# Altium footprint library PcbLib1.PcbLib: 224 footprints (part 13 of 14)
Each footprint in its own frame and in the unit in brackets; x right, y up, seen from the top. Pads: shape width x height; smd on the part's side, far side on the other; paste and mask are expansions set on the pad; w line width, h text height; cw(c..) or ccw(c..) is an arc to the next point about the centre after c.
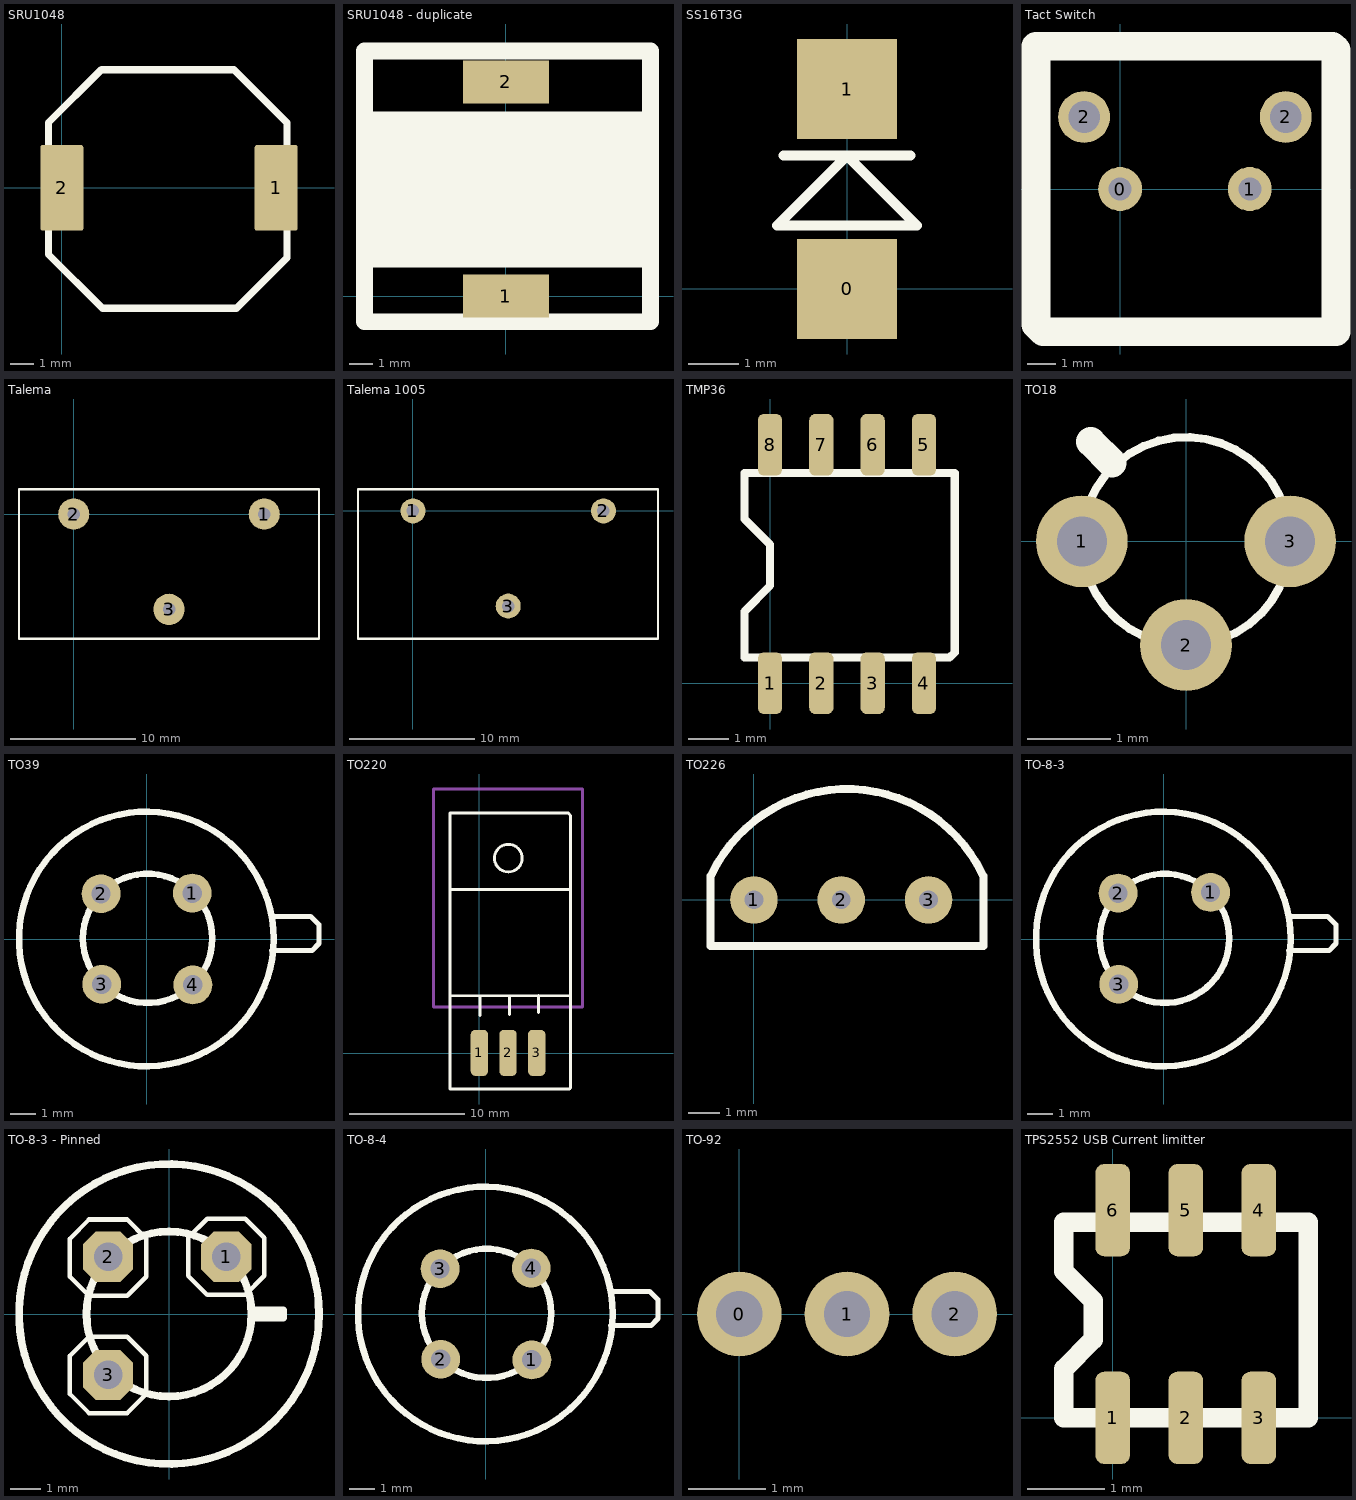
[diagram p12: the footprints below, top view; thin cyan lines are the x and y axes]

## SRU1048 [mm]
height 5
pads (2):
  rrect10% 1.8x3.6 smd: 1(9,0) 2(0,0)
Top Overlay:
  lines w0.3: -0.559,-2.794 1.702,-5.055 7.341,-5.055 9.449,-2.946 9.449,2.743 7.231,4.961 1.659,4.961 -0.559,2.743 -0.559,-2.794

## SRU1048 - duplicate [mm]
height 5
pads (2):
  rect 3.6x1.8 smd: 1(0,0) 2(0,8.992)
Top Overlay:
  rectangle: -5.994,1.194 6.172,7.747
  lines w0.7: -5.933,10.287 -5.933,-1.082 6.067,-1.082 6.067,10.287 ; -5.842,10.287 6.02,10.287

## SS16T3G [mm] "Schottky"
pads (2):
  rect 2x2 smd: 0(0,0) 1(0,4)
Top Overlay:
  lines w0.2: -1.27,2.667 1.27,2.667 ; -1.397,1.27 0,2.667 1.397,1.27 -1.397,1.27

## Tact Switch [mm]
pads (4):
  round 1.524 hole 0.8: 0(0,0) 1(4.5,0)
  round 1.8 hole 1.1: 2(-1.25,2.5) 2(5.75,2.5)
Top Overlay:
  lines w1: 0.047,-4.953 7.493,-4.953 7.493,4.826 7.366,4.953 -2.921,4.953 -2.921,-4.699 -2.667,-4.953 1.397,-4.953

## Talema [mm]
pads (3):
  round 2.5 hole 1: 1(15.24,0) 2(0,0) 3(7.62,-7.62)
Top Overlay:
  lines w0.2: -4.38,-9.993 19.62,-9.993 19.62,2.007 -4.38,2.007 -4.38,-9.993

## Talema 1005 [mm]
height 30
pads (3):
  round 2 hole 1: 1(0,0) 2(15.24,0) 3(7.62,-7.62)
Top Overlay:
  lines w0.2: -4.4,-10.25 19.6,-10.25 19.6,1.75 -4.4,1.75 -4.4,-10.25

## TMP36 [mm]
height 1
pads (8):
  rrect50% 0.6x1.524 smd: 1(0,0) 2(1.27,0) 3(2.54,0) 4(3.81,0) 5(3.81,5.9) 6(2.54,5.9) 7(1.27,5.9) 8(0,5.9)
Top Overlay:
  lines w0.2: -0.635,0.635 4.445,0.635 4.572,0.762 4.572,5.207 -0.635,5.207 -0.635,4.064 0,3.429 0,2.413 -0.635,1.778 -0.635,0.635

## TO18 [mm]
pads (3):
  round 1.1 hole 0.6: 1(-1.25,0) 2(0,-1.245) 3(1.25,0)
Top Overlay:
  circle w0.1: c0,0 r1.25
  lines w0.35: -1.143,1.194 -0.889,0.94

## TO39 [mil]
height 196.85
pads (4):
  round 60 hole 30: 1(70,71) 2(-71,70) 3(-70,-70) 4(71,-71)
Top Overlay:
  circle w10: c1,1 r100
  circle w10: c-1,0 r196.85
  lines w7.87: 193,-18 255,-18 266,-7 266,22 253,35 193,35

## TO220 [mm]
pads (3):
  rrect50% 1.5x4 smd: 1(0,0.025) 2(2.5,0.025) 3(5,0.025)
Top Overlay:
  circle w0.254: c2.525,17 r1.205
  lines w0.254: -2.489,5.004 7.823,5.004 7.899,5.08 ; -2.489,14.275 7.95,14.275 ; 0.051,3.277 0.051,4.928 ; 2.642,3.378 2.642,4.953 ; 5.156,3.531 5.156,5.029 ; -2.565,-3.124 -2.565,20.904 -2.54,20.93 7.747,20.93 7.95,20.726 7.95,-3.048 7.874,-3.124 -2.565,-3.124
Mechanical 1:
  lines w0.254: -4.002,4.025 -4.002,23.025 8.998,23.025 8.998,4.025 -4.002,4.025

## TO226 [mil]
pads (3):
  round 60 hole 23.62: 1(0,0) 2(110.24,0) 3(220.47,0)
Top Overlay:
  lines w10: -55,-58 -55,30 -54,31 cw(c117.5,-49.41) 289,31 290,30 290,-58 -55,-58

## TO-8-3 [mil]
height 157.48
pads (3):
  round 60 hole 30: 1(72,72) 2(-71,71) 3(-70,-70)
Top Overlay:
  circle w10: c1,1 r100
  circle w10: c-1,0 r196.85
  lines w7.87: 193,-18 255,-18 266,-7 266,22 253,35 193,35

## TO-8-3 - Pinned [mil]
pads (3):
  oct 66x66 hole 37.4: 1(75,75) 2(-80,75) 3(-80,-80)
Top Overlay:
  circle w10: c0,0 r196.85
  circle w10: c0,0 r108.27
  rectangle: -90,-90 -70,-70
  rectangle: -90,64 -70,84
  rectangle: 65,65 85,85
  lines w6: -105,-30 -55,-30 ; -105,-30 -55,-30 ; -105,-30 -130,-55 -130,-105 -105,-130 -55,-130 -30,-105 ; -105,124 -55,124 ; -105,124 -55,124 ; -105,124 -130,99 -130,49 -105,24 -55,24 -30,49 ; -55,-30 -30,-55 ; -55,124 -30,99 ; -30,-105 -30,-55 ; -30,-105 -30,-55 ; -30,49 -30,99 ; -30,49 -30,99 ; 50,125 100,125 ; 50,125 100,125 ; 50,125 25,100 25,50 50,25 100,25 125,50 ; 100,125 125,100 ; 125,50 125,100 ; 125,50 125,100
  lines w10: 108.27,0 113.27,-5 150,-5 150,5 110,5
  lines w27.56: 75,75 80,75

## TO-8-4 [mil]
pads (4):
  round 60 hole 30: 1(71,-71) 2(-70,-70) 3(-71,70) 4(70,71)
Top Overlay:
  circle w10: c1,1 r100
  circle w10: c-1,0 r196.85
  lines w7.87: 193,-18 255,-18 266,-7 266,22 253,35 193,35

## TO-92 [mm]
pads (3):
  round 1.1 hole 0.6: 0(0,0) 1(1.4,0) 2(2.8,0)

## TPS2552 USB Current limitter [mm]
pads (6):
  rrect50% 0.45x1.2 smd mask+0.05: 1(0,0) 2(0.95,0) 3(1.9,0) 4(1.9,2.7) 5(0.95,2.7) 6(0,2.7)
Top Overlay:
  lines w0.254: -0.635,0 -0.635,0.635 -0.254,1.016 -0.254,1.524 -0.635,1.905 -0.635,2.54 2.54,2.54 2.54,0 -0.635,0